# Altium integrated library NSC LDO.IntLib: 1228 symbols (part 17 of 28)
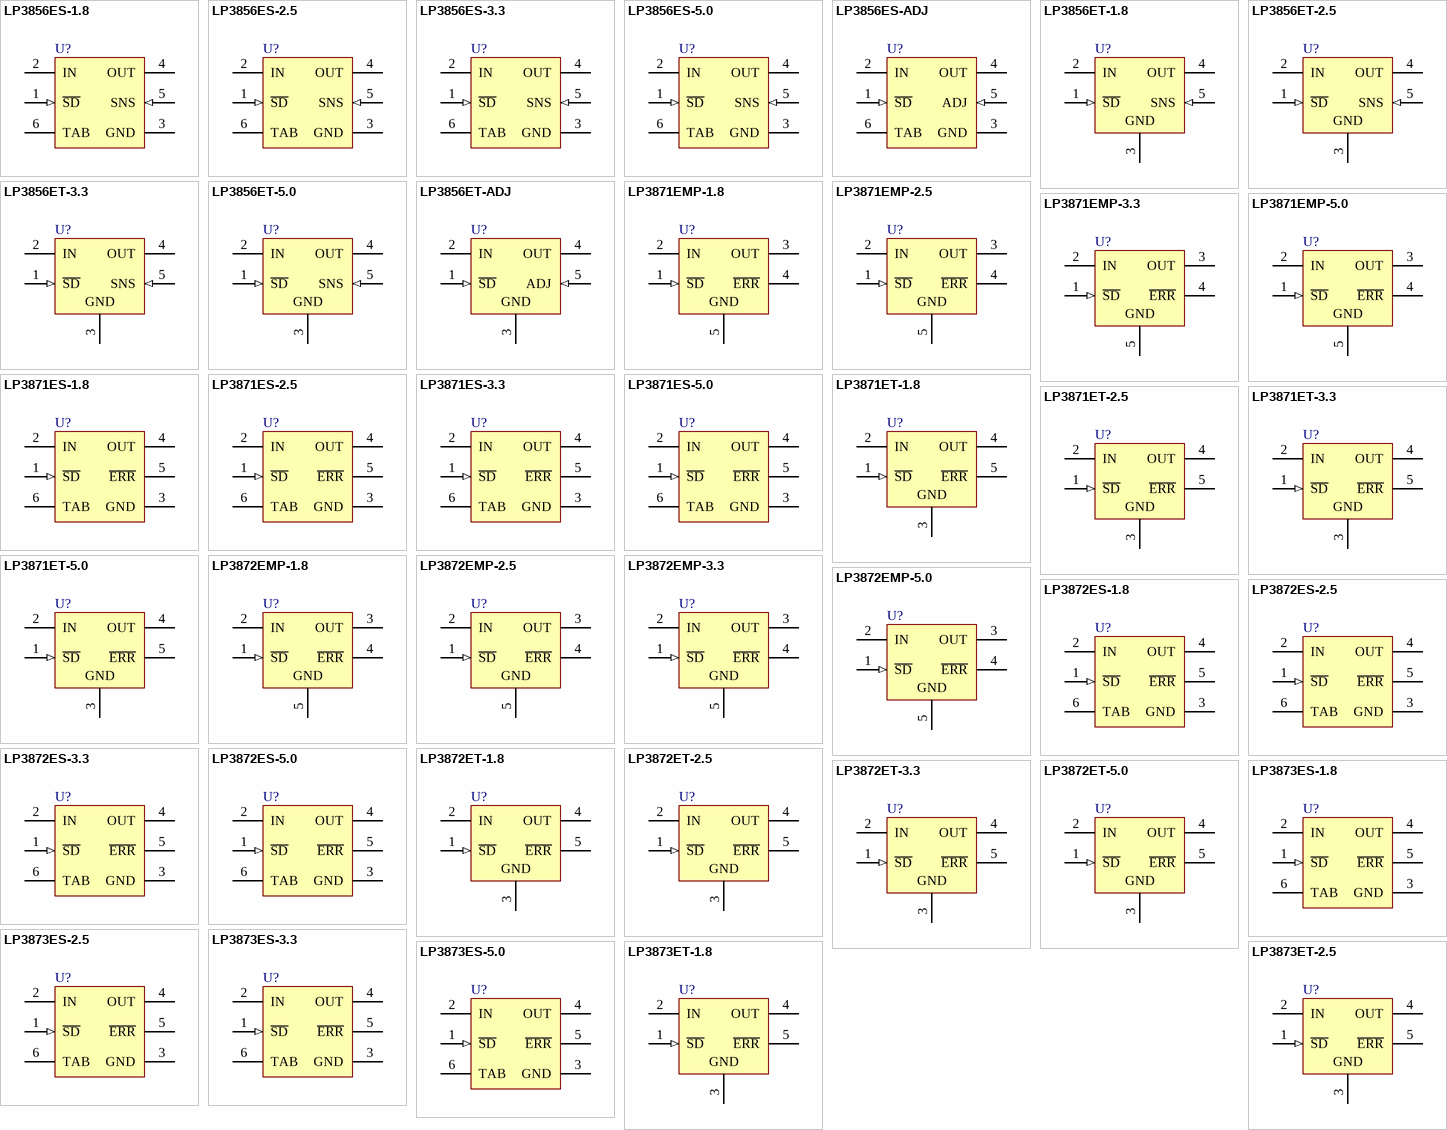
[diagram p46: symbols LP3856ES-1.8 to LP3873ET-2.5]

## LP3873ET-2.5
designator U?
3A Fast Ultra Low Dropout Linear Regulator; PartNumber: LP3873ET-2.5; Manufacturer: National Semiconductor; CompType: LDO IC; PackageTopMarking: NSUZXYTTE#*LP3873ET*-2.5; Published: 4-Dec-2008; DatasheetVersion: Sep-2006; PackageVersion: revA, Oct-1989; PackageReference: T05D; Publisher: Altium Limited; PackageDescription: TO-220, Molded, Stagger Bend, 5 Lead; RoHS: Y; PinCount: 5; DigiKeyPartNumber: LP3873ET-2.5-ND; ComponentLink1Description: LP3873 Datasheet; ComponentLink1URL: http://www.national.com/ds/LP/LP3873.pdf; ComponentLink2Description: LP3873 Web Page; ComponentLink2URL: http://www.national.com/pf/LP/LP3873.html; ComponentLink3Description: T05D Package Page; ComponentLink3URL: http://www.national.com/packaging/folders/t05d.html
footprint T05D (TO, Thru-Hole, Vertical, Heatsink Mounted; 5 Bent Staggered Leads; Pitch 1.7 mm)
pins: 1 ~{SD} (in), 2 IN (power), 3 GND (power), 4 OUT (power), 5 ~{ERR} (oc)

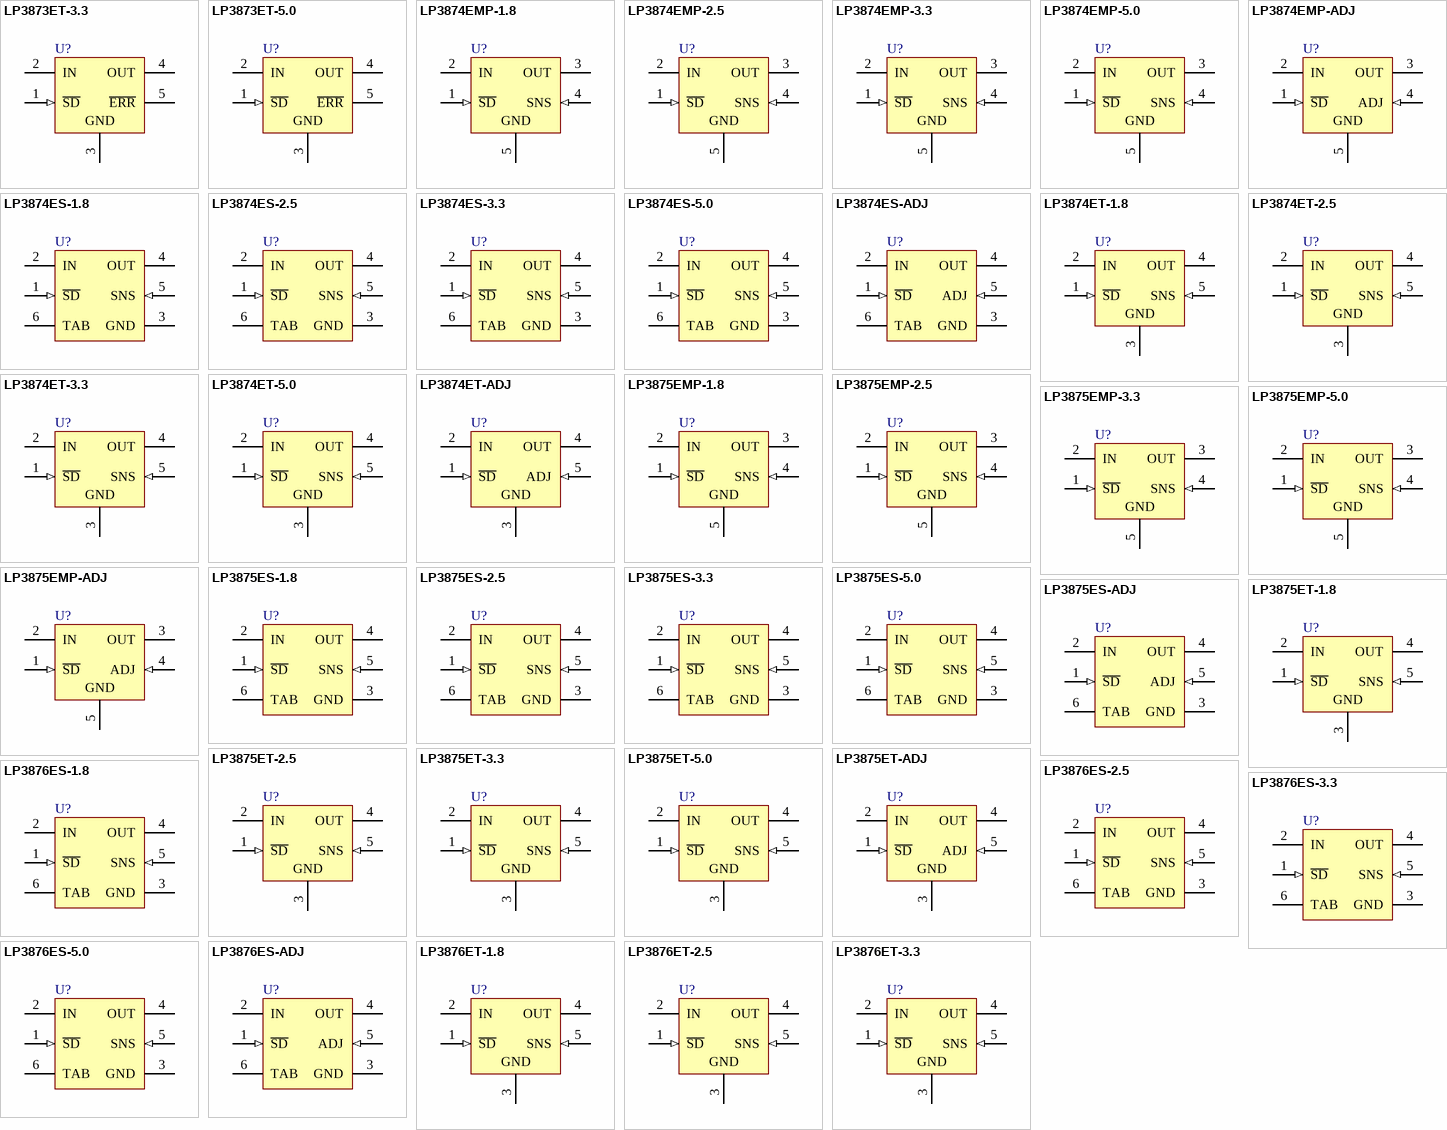
[diagram p18: symbols LP3873ET-3.3 to LP3876ET-3.3]

## LP3873ET-3.3
designator U?
3A Fast Ultra Low Dropout Linear Regulator; PartNumber: LP3873ET-3.3; Manufacturer: National Semiconductor; CompType: LDO IC; PackageTopMarking: NSUZXYTTE#*LP3873ET*-3.3; Published: 4-Dec-2008; DatasheetVersion: Sep-2006; PackageVersion: revA, Oct-1989; PackageReference: T05D; Publisher: Altium Limited; PackageDescription: TO-220, Molded, Stagger Bend, 5 Lead; RoHS: Y; PinCount: 5; DigiKeyPartNumber: LP3873ET-3.3-ND; ComponentLink1Description: LP3873 Datasheet; ComponentLink1URL: http://www.national.com/ds/LP/LP3873.pdf; ComponentLink2Description: LP3873 Web Page; ComponentLink2URL: http://www.national.com/pf/LP/LP3873.html; ComponentLink3Description: T05D Package Page; ComponentLink3URL: http://www.national.com/packaging/folders/t05d.html
footprint T05D (TO, Thru-Hole, Vertical, Heatsink Mounted; 5 Bent Staggered Leads; Pitch 1.7 mm)
pins: 1 ~{SD} (in), 2 IN (power), 3 GND (power), 4 OUT (power), 5 ~{ERR} (oc)

## LP3873ET-5.0
designator U?
3A Fast Ultra Low Dropout Linear Regulator; PartNumber: LP3873ET-5.0; Manufacturer: National Semiconductor; CompType: LDO IC; PackageTopMarking: NSUZXYTTE#*LP3873ET*-5.0; Published: 4-Dec-2008; DatasheetVersion: Sep-2006; PackageVersion: revA, Oct-1989; PackageReference: T05D; Publisher: Altium Limited; PackageDescription: TO-220, Molded, Stagger Bend, 5 Lead; RoHS: Y; PinCount: 5; DigiKeyPartNumber: LP3873ET-5.0-ND; ComponentLink1Description: LP3873 Datasheet; ComponentLink1URL: http://www.national.com/ds/LP/LP3873.pdf; ComponentLink2Description: LP3873 Web Page; ComponentLink2URL: http://www.national.com/pf/LP/LP3873.html; ComponentLink3Description: T05D Package Page; ComponentLink3URL: http://www.national.com/packaging/folders/t05d.html
footprint T05D (TO, Thru-Hole, Vertical, Heatsink Mounted; 5 Bent Staggered Leads; Pitch 1.7 mm)
pins: 1 ~{SD} (in), 2 IN (power), 3 GND (power), 4 OUT (power), 5 ~{ERR} (oc)

## LP3874EMP-1.8
designator U?
0.8A Fast Ultra Low Dropout Linear Regulators; PartNumber: LP3874EMP-1.8; Manufacturer: National Semiconductor; CompType: LDO IC; PackageTopMarking: XYTT*LHEB; PowerWise: N; Published: 4-Dec-2008; DatasheetVersion: Sep-2006; PackageVersion: revA, Jan-2000; PackageReference: MP05A; Publisher: Altium Limited; PackageDescription: Moldec SOT-223, 6.50 x 3.56 x 1.6mm Body, 5 Lead, 1.5mm Pitch; RoHS: Y; PinCount: 5; DigiKeyPartNumber: LP3874EMP-1.8CT-ND; Code_JEDEC: TO-261-AB; Code_IPC: SOT223-5; ComponentLink1Description: LP3874 Datasheet; ComponentLink1URL: http://www.national.com/ds/LP/LP3874.pdf; ComponentLink2Description: LP3874 Web Page; ComponentLink2URL: http://www.national.com/pf/LP/LP3874.html; ComponentLink3Description: MP05A Package Page; ComponentLink3URL: http://www.national.com/packaging/folders/mp05a.html
footprint MP05A_N (SOT223, 5-Leads, Body 6.5x3.5mm, Pitch 1.5mm, Lead Span 7mm, IPC Medium Density)
footprint MP05A_L (SOT223, 5-Leads, Body 6.5x3.5mm, Pitch 1.5mm, Lead Span 7mm, IPC High Density)
footprint MP05A_M (SOT223, 5-Leads, Body 6.5x3.5mm, Pitch 1.5mm, Lead Span 7mm, IPC Low Density)
pins: 1 ~{SD} (in), 2 IN (power), 3 OUT (power), 4 SNS (in), 5 GND (power)

## LP3874EMP-2.5
designator U?
0.8A Fast Ultra Low Dropout Linear Regulators; PartNumber: LP3874EMP-2.5; Manufacturer: National Semiconductor; CompType: LDO IC; PackageTopMarking: XYTT*LHFB; PowerWise: N; Published: 4-Dec-2008; DatasheetVersion: Sep-2006; PackageVersion: revA, Jan-2000; PackageReference: MP05A; Publisher: Altium Limited; PackageDescription: Moldec SOT-223, 6.50 x 3.56 x 1.6mm Body, 5 Lead, 1.5mm Pitch; RoHS: Y; PinCount: 5; DigiKeyPartNumber: LP3874EMP-2.5CT-ND; Code_JEDEC: TO-261-AB; Code_IPC: SOT223-5; ComponentLink1Description: LP3874 Datasheet; ComponentLink1URL: http://www.national.com/ds/LP/LP3874.pdf; ComponentLink2Description: LP3874 Web Page; ComponentLink2URL: http://www.national.com/pf/LP/LP3874.html; ComponentLink3Description: MP05A Package Page; ComponentLink3URL: http://www.national.com/packaging/folders/mp05a.html
footprint MP05A_N (SOT223, 5-Leads, Body 6.5x3.5mm, Pitch 1.5mm, Lead Span 7mm, IPC Medium Density)
footprint MP05A_L (SOT223, 5-Leads, Body 6.5x3.5mm, Pitch 1.5mm, Lead Span 7mm, IPC High Density)
footprint MP05A_M (SOT223, 5-Leads, Body 6.5x3.5mm, Pitch 1.5mm, Lead Span 7mm, IPC Low Density)
pins: 1 ~{SD} (in), 2 IN (power), 3 OUT (power), 4 SNS (in), 5 GND (power)

## LP3874EMP-3.3
designator U?
0.8A Fast Ultra Low Dropout Linear Regulators; PartNumber: LP3874EMP-3.3; Manufacturer: National Semiconductor; CompType: LDO IC; PackageTopMarking: XYTT*LHHB; PowerWise: N; Published: 4-Dec-2008; DatasheetVersion: Sep-2006; PackageVersion: revA, Jan-2000; PackageReference: MP05A; Publisher: Altium Limited; PackageDescription: Moldec SOT-223, 6.50 x 3.56 x 1.6mm Body, 5 Lead, 1.5mm Pitch; RoHS: Y; PinCount: 5; DigiKeyPartNumber: LP3874EMP-3.3CT-ND; Code_JEDEC: TO-261-AB; Code_IPC: SOT223-5; ComponentLink1Description: LP3874 Datasheet; ComponentLink1URL: http://www.national.com/ds/LP/LP3874.pdf; ComponentLink2Description: LP3874 Web Page; ComponentLink2URL: http://www.national.com/pf/LP/LP3874.html; ComponentLink3Description: MP05A Package Page; ComponentLink3URL: http://www.national.com/packaging/folders/mp05a.html
footprint MP05A_N (SOT223, 5-Leads, Body 6.5x3.5mm, Pitch 1.5mm, Lead Span 7mm, IPC Medium Density)
footprint MP05A_L (SOT223, 5-Leads, Body 6.5x3.5mm, Pitch 1.5mm, Lead Span 7mm, IPC High Density)
footprint MP05A_M (SOT223, 5-Leads, Body 6.5x3.5mm, Pitch 1.5mm, Lead Span 7mm, IPC Low Density)
pins: 1 ~{SD} (in), 2 IN (power), 3 OUT (power), 4 SNS (in), 5 GND (power)

## LP3874EMP-5.0
designator U?
0.8A Fast Ultra Low Dropout Linear Regulators; PartNumber: LP3874EMP-5.0; Manufacturer: National Semiconductor; CompType: LDO IC; PackageTopMarking: XYTT*LHJB; PowerWise: N; Published: 4-Dec-2008; DatasheetVersion: Sep-2006; PackageVersion: revA, Jan-2000; PackageReference: MP05A; Publisher: Altium Limited; PackageDescription: Moldec SOT-223, 6.50 x 3.56 x 1.6mm Body, 5 Lead, 1.5mm Pitch; RoHS: Y; PinCount: 5; DigiKeyPartNumber: LP3874EMP-5.0CT-ND; Code_JEDEC: TO-261-AB; Code_IPC: SOT223-5; ComponentLink1Description: LP3874 Datasheet; ComponentLink1URL: http://www.national.com/ds/LP/LP3874.pdf; ComponentLink2Description: LP3874 Web Page; ComponentLink2URL: http://www.national.com/pf/LP/LP3874.html; ComponentLink3Description: MP05A Package Page; ComponentLink3URL: http://www.national.com/packaging/folders/mp05a.html
footprint MP05A_N (SOT223, 5-Leads, Body 6.5x3.5mm, Pitch 1.5mm, Lead Span 7mm, IPC Medium Density)
footprint MP05A_L (SOT223, 5-Leads, Body 6.5x3.5mm, Pitch 1.5mm, Lead Span 7mm, IPC High Density)
footprint MP05A_M (SOT223, 5-Leads, Body 6.5x3.5mm, Pitch 1.5mm, Lead Span 7mm, IPC Low Density)
pins: 1 ~{SD} (in), 2 IN (power), 3 OUT (power), 4 SNS (in), 5 GND (power)

## LP3874EMP-ADJ
designator U?
0.8A Fast Ultra Low Dropout Linear Regulators; PartNumber: LP3874EMP-ADJ; Manufacturer: National Semiconductor; CompType: LDO IC; PackageTopMarking: XYTT*LHKB; PowerWise: N; Published: 4-Dec-2008; DatasheetVersion: Oct-2006; PackageVersion: revA, Jan-2000; PackageReference: MP05A; Publisher: Altium Limited; PackageDescription: Moldec SOT-223, 6.50 x 3.56 x 1.6mm Body, 5 Lead, 1.5mm Pitch; RoHS: Y; PinCount: 5; DigiKeyPartNumber: LP3874EMP-ADJCT-ND; Code_JEDEC: TO-261-AB; Code_IPC: SOT223-5; ComponentLink1Description: LP3874-ADJ Datasheet; ComponentLink1URL: http://www.national.com/ds/LP/LP3874-ADJ.pdf; ComponentLink2Description: LP3874-ADJ Web Page; ComponentLink2URL: http://www.national.com/pf/LP/LP3874-ADJ.html; ComponentLink3Description: MP05A Package Page; ComponentLink3URL: http://www.national.com/packaging/folders/mp05a.html
footprint MP05A_N (SOT223, 5-Leads, Body 6.5x3.5mm, Pitch 1.5mm, Lead Span 7mm, IPC Medium Density)
footprint MP05A_L (SOT223, 5-Leads, Body 6.5x3.5mm, Pitch 1.5mm, Lead Span 7mm, IPC High Density)
footprint MP05A_M (SOT223, 5-Leads, Body 6.5x3.5mm, Pitch 1.5mm, Lead Span 7mm, IPC Low Density)
pins: 1 ~{SD} (in), 2 IN (power), 3 OUT (power), 4 ADJ (in), 5 GND (power)

## LP3874ES-1.8
designator U?
0.8A Fast Ultra Low Dropout Linear Regulators; PartNumber: LP3874ES-1.8; Manufacturer: National Semiconductor; CompType: LDO IC; PackageTopMarking: NSUZXYTTE#*LP3874ES*-1.8; Published: 4-Dec-2008; DatasheetVersion: Sep-2006; PackageVersion: revD, Apr-2005; PackageReference: TS5B; Publisher: Altium Limited; PackageDescription: TO-263, Molded, .400 x .390 x .180in, 5 Lead, .067in Pitch, Surface Mount; RoHS: O; PinCount: 5; DigiKeyPartNumber: LP3874ES-1.8-ND; Code_JEDEC: MO-169-AB; ComponentLink1Description: LP3874 Datasheet; ComponentLink1URL: http://www.national.com/ds/LP/LP3874.pdf; ComponentLink2Description: LP3874 Web Page; ComponentLink2URL: http://www.national.com/pf/LP/LP3874.html; ComponentLink3Description: TS5B Package Page; ComponentLink3URL: http://www.national.com/packaging/folders/ts5b.html
footprint TS5B_N (D2-PAK, 6-Leads, Body 8.6x10.2mm, Pitch 1.7mm, Lead Span 14.1mm, IPC Medium Density)
footprint TS5B_L (D2-PAK, 6-Leads, Body 8.6x10.2mm, Pitch 1.7mm, Lead Span 14.1mm, IPC High Density)
footprint TS5B_M (D2-PAK, 6-Leads, Body 8.6x10.2mm, Pitch 1.7mm, Lead Span 14.1mm, IPC Low Density)
pins: 1 ~{SD} (in), 2 IN (power), 3 GND (power), 4 OUT (power), 5 SNS (in), 6 TAB (power)

## LP3874ES-2.5
designator U?
0.8A Fast Ultra Low Dropout Linear Regulators; PartNumber: LP3874ES-2.5; Manufacturer: National Semiconductor; CompType: LDO IC; PackageTopMarking: NSUZXYTTE#*LP3874ES*-2.5; PowerWise: N; Published: 4-Dec-2008; DatasheetVersion: Sep-2006; PackageVersion: revD, Apr-2005; PackageReference: TS5B; Publisher: Altium Limited; PackageDescription: TO-263, Molded, .400 x .390 x .180in, 5 Lead, .067in Pitch, Surface Mount; RoHS: O; PinCount: 5; DigiKeyPartNumber: LP3874ES-2.5-ND; Code_JEDEC: MO-169-AB; ComponentLink1Description: LP3874 Datasheet; ComponentLink1URL: http://www.national.com/ds/LP/LP3874.pdf; ComponentLink2Description: LP3874 Web Page; ComponentLink2URL: http://www.national.com/pf/LP/LP3874.html; ComponentLink3Description: TS5B Package Page; ComponentLink3URL: http://www.national.com/packaging/folders/ts5b.html
footprint TS5B_N (D2-PAK, 6-Leads, Body 8.6x10.2mm, Pitch 1.7mm, Lead Span 14.1mm, IPC Medium Density)
footprint TS5B_L (D2-PAK, 6-Leads, Body 8.6x10.2mm, Pitch 1.7mm, Lead Span 14.1mm, IPC High Density)
footprint TS5B_M (D2-PAK, 6-Leads, Body 8.6x10.2mm, Pitch 1.7mm, Lead Span 14.1mm, IPC Low Density)
pins: 1 ~{SD} (in), 2 IN (power), 3 GND (power), 4 OUT (power), 5 SNS (in), 6 TAB (power)

## LP3874ES-3.3
designator U?
0.8A Fast Ultra Low Dropout Linear Regulators; PartNumber: LP3874ES-3.3; Manufacturer: National Semiconductor; CompType: LDO IC; PackageTopMarking: NSUZXYTTE#*LP3874ES*-3.3; PowerWise: N; Published: 4-Dec-2008; DatasheetVersion: Sep-2006; PackageVersion: revD, Apr-2005; PackageReference: TS5B; Publisher: Altium Limited; PackageDescription: TO-263, Molded, .400 x .390 x .180in, 5 Lead, .067in Pitch, Surface Mount; RoHS: Y; PinCount: 5; DigiKeyPartNumber: LP3874ES-3.3-ND; Code_JEDEC: MO-169-AB; ComponentLink1Description: LP3874 Datasheet; ComponentLink1URL: http://www.national.com/ds/LP/LP3874.pdf; ComponentLink2Description: LP3874 Web Page; ComponentLink2URL: http://www.national.com/pf/LP/LP3874.html; ComponentLink3Description: TS5B Package Page; ComponentLink3URL: http://www.national.com/packaging/folders/ts5b.html
footprint TS5B_N (D2-PAK, 6-Leads, Body 8.6x10.2mm, Pitch 1.7mm, Lead Span 14.1mm, IPC Medium Density)
footprint TS5B_L (D2-PAK, 6-Leads, Body 8.6x10.2mm, Pitch 1.7mm, Lead Span 14.1mm, IPC High Density)
footprint TS5B_M (D2-PAK, 6-Leads, Body 8.6x10.2mm, Pitch 1.7mm, Lead Span 14.1mm, IPC Low Density)
pins: 1 ~{SD} (in), 2 IN (power), 3 GND (power), 4 OUT (power), 5 SNS (in), 6 TAB (power)

## LP3874ES-5.0
designator U?
0.8A Fast Ultra Low Dropout Linear Regulators; PartNumber: LP3874ES-5.0; Manufacturer: National Semiconductor; CompType: LDO IC; PackageTopMarking: NSUZXYTTE#*LP3874ES*-5.0; Published: 4-Dec-2008; DatasheetVersion: Sep-2006; PackageVersion: revD, Apr-2005; PackageReference: TS5B; Publisher: Altium Limited; PackageDescription: TO-263, Molded, .400 x .390 x .180in, 5 Lead, .067in Pitch, Surface Mount; RoHS: Y; PinCount: 5; DigiKeyPartNumber: LP3874ES-5.0-ND; Code_JEDEC: MO-169-AB; ComponentLink1Description: LP3874 Datasheet; ComponentLink1URL: http://www.national.com/ds/LP/LP3874.pdf; ComponentLink2Description: LP3874 Web Page; ComponentLink2URL: http://www.national.com/pf/LP/LP3874.html; ComponentLink3Description: TS5B Package Page; ComponentLink3URL: http://www.national.com/packaging/folders/ts5b.html
footprint TS5B_N (D2-PAK, 6-Leads, Body 8.6x10.2mm, Pitch 1.7mm, Lead Span 14.1mm, IPC Medium Density)
footprint TS5B_L (D2-PAK, 6-Leads, Body 8.6x10.2mm, Pitch 1.7mm, Lead Span 14.1mm, IPC High Density)
footprint TS5B_M (D2-PAK, 6-Leads, Body 8.6x10.2mm, Pitch 1.7mm, Lead Span 14.1mm, IPC Low Density)
pins: 1 ~{SD} (in), 2 IN (power), 3 GND (power), 4 OUT (power), 5 SNS (in), 6 TAB (power)

## LP3874ES-ADJ
designator U?
0.8A Fast Ultra Low Dropout Linear Regulators; PartNumber: LP3874ES-ADJ; Manufacturer: National Semiconductor; CompType: LDO IC; PackageTopMarking: NSUZXYTTE#*LP3874ES*ADJ; PowerWise: N; Published: 4-Dec-2008; DatasheetVersion: Oct-2006; PackageVersion: revD, Apr-2005; PackageReference: TS5B; Publisher: Altium Limited; PackageDescription: TO-263, Molded, .400 x .390 x .180in, 5 Lead, .067in Pitch, Surface Mount; RoHS: Y; PinCount: 5; DigiKeyPartNumber: LP3874ES-ADJ-ND; Code_JEDEC: MO-169-AB; ComponentLink1Description: LP3874-ADJ Datasheet; ComponentLink1URL: http://www.national.com/ds/LP/LP3874-ADJ.pdf; ComponentLink2Description: LP3874-ADJ Web Page; ComponentLink2URL: http://www.national.com/pf/LP/LP3874-ADJ.html; ComponentLink3Description: TS5B Package Page; ComponentLink3URL: http://www.national.com/packaging/folders/ts5b.html
footprint TS5B_N (D2-PAK, 6-Leads, Body 8.6x10.2mm, Pitch 1.7mm, Lead Span 14.1mm, IPC Medium Density)
footprint TS5B_L (D2-PAK, 6-Leads, Body 8.6x10.2mm, Pitch 1.7mm, Lead Span 14.1mm, IPC High Density)
footprint TS5B_M (D2-PAK, 6-Leads, Body 8.6x10.2mm, Pitch 1.7mm, Lead Span 14.1mm, IPC Low Density)
pins: 1 ~{SD} (in), 2 IN (power), 3 GND (power), 4 OUT (power), 5 ADJ (in), 6 TAB (power)

## LP3874ET-1.8
designator U?
0.8A Fast Ultra Low Dropout Linear Regulators; PartNumber: LP3874ET-1.8; Manufacturer: National Semiconductor; CompType: LDO IC; PackageTopMarking: NSUZXYTTE#*LP3874ET*-1.8; Published: 4-Dec-2008; DatasheetVersion: Sep-2006; PackageVersion: revA, Oct-1989; PackageReference: T05D; Publisher: Altium Limited; PackageDescription: TO-220, Molded, Stagger Bend, 5 Lead; RoHS: Y; PinCount: 5; DigiKeyPartNumber: LP3874ET-1.8-ND; ComponentLink1Description: LP3874 Datasheet; ComponentLink1URL: http://www.national.com/ds/LP/LP3874.pdf; ComponentLink2Description: LP3874 Web Page; ComponentLink2URL: http://www.national.com/pf/LP/LP3874.html; ComponentLink3Description: T05D Package Page; ComponentLink3URL: http://www.national.com/packaging/folders/t05d.html
footprint T05D (TO, Thru-Hole, Vertical, Heatsink Mounted; 5 Bent Staggered Leads; Pitch 1.7 mm)
pins: 1 ~{SD} (in), 2 IN (power), 3 GND (power), 4 OUT (power), 5 SNS (in)

## LP3874ET-2.5
designator U?
0.8A Fast Ultra Low Dropout Linear Regulators; PartNumber: LP3874ET-2.5; Manufacturer: National Semiconductor; CompType: LDO IC; PackageTopMarking: NSUZXYTTE#*LP3874ET*-2.5; Published: 4-Dec-2008; DatasheetVersion: Sep-2006; PackageVersion: revA, Oct-1989; PackageReference: T05D; Publisher: Altium Limited; PackageDescription: TO-220, Molded, Stagger Bend, 5 Lead; RoHS: Y; PinCount: 5; DigiKeyPartNumber: LP3874ET-2.5-ND; ComponentLink1Description: LP3874 Datasheet; ComponentLink1URL: http://www.national.com/ds/LP/LP3874.pdf; ComponentLink2Description: LP3874 Web Page; ComponentLink2URL: http://www.national.com/pf/LP/LP3874.html; ComponentLink3Description: T05D Package Page; ComponentLink3URL: http://www.national.com/packaging/folders/t05d.html
footprint T05D (TO, Thru-Hole, Vertical, Heatsink Mounted; 5 Bent Staggered Leads; Pitch 1.7 mm)
pins: 1 ~{SD} (in), 2 IN (power), 3 GND (power), 4 OUT (power), 5 SNS (in)

## LP3874ET-3.3
designator U?
0.8A Fast Ultra Low Dropout Linear Regulators; PartNumber: LP3874ET-3.3; Manufacturer: National Semiconductor; CompType: LDO IC; PackageTopMarking: NSUZXYTTE#*LP3874ET*-3.3; Published: 4-Dec-2008; DatasheetVersion: Sep-2006; PackageVersion: revA, Oct-1989; PackageReference: T05D; Publisher: Altium Limited; PackageDescription: TO-220, Molded, Stagger Bend, 5 Lead; RoHS: Y; PinCount: 5; DigiKeyPartNumber: LP3874ET-3.3-ND; ComponentLink1Description: LP3874 Datasheet; ComponentLink1URL: http://www.national.com/ds/LP/LP3874.pdf; ComponentLink2Description: LP3874 Web Page; ComponentLink2URL: http://www.national.com/pf/LP/LP3874.html; ComponentLink3Description: T05D Package Page; ComponentLink3URL: http://www.national.com/packaging/folders/t05d.html
footprint T05D (TO, Thru-Hole, Vertical, Heatsink Mounted; 5 Bent Staggered Leads; Pitch 1.7 mm)
pins: 1 ~{SD} (in), 2 IN (power), 3 GND (power), 4 OUT (power), 5 SNS (in)

## LP3874ET-5.0
designator U?
0.8A Fast Ultra Low Dropout Linear Regulators; PartNumber: LP3874ET-5.0; Manufacturer: National Semiconductor; CompType: LDO IC; PackageTopMarking: NSUZXYTTE#*LP3874ET*-5.0; Published: 4-Dec-2008; DatasheetVersion: Sep-2006; PackageVersion: revA, Oct-1989; PackageReference: T05D; Publisher: Altium Limited; PackageDescription: TO-220, Molded, Stagger Bend, 5 Lead; RoHS: Y; PinCount: 5; DigiKeyPartNumber: LP3874ET-5.0-ND; ComponentLink1Description: LP3874 Datasheet; ComponentLink1URL: http://www.national.com/ds/LP/LP3874.pdf; ComponentLink2Description: LP3874 Web Page; ComponentLink2URL: http://www.national.com/pf/LP/LP3874.html; ComponentLink3Description: T05D Package Page; ComponentLink3URL: http://www.national.com/packaging/folders/t05d.html
footprint T05D (TO, Thru-Hole, Vertical, Heatsink Mounted; 5 Bent Staggered Leads; Pitch 1.7 mm)
pins: 1 ~{SD} (in), 2 IN (power), 3 GND (power), 4 OUT (power), 5 SNS (in)

## LP3874ET-ADJ
designator U?
0.8A Fast Ultra Low Dropout Linear Regulators; PartNumber: LP3874ET-ADJ; Manufacturer: National Semiconductor; CompType: LDO IC; PackageTopMarking: NSUZXYTTE#*LP3874ET*ADJ; Published: 4-Dec-2008; DatasheetVersion: Oct-2006; PackageVersion: revA, Oct-1989; PackageReference: T05D; Publisher: Altium Limited; PackageDescription: TO-220, Molded, Stagger Bend, 5 Lead; RoHS: Y; PinCount: 5; DigiKeyPartNumber: LP3874ET-ADJ-ND; ComponentLink1Description: LP3874-ADJ Datasheet; ComponentLink1URL: http://www.national.com/ds/LP/LP3874-ADJ.pdf; ComponentLink2Description: LP3874-ADJ Web Page; ComponentLink2URL: http://www.national.com/pf/LP/LP3874-ADJ.html; ComponentLink3Description: T05D Package Page; ComponentLink3URL: http://www.national.com/packaging/folders/t05d.html
footprint T05D (TO, Thru-Hole, Vertical, Heatsink Mounted; 5 Bent Staggered Leads; Pitch 1.7 mm)
pins: 1 ~{SD} (in), 2 IN (power), 3 GND (power), 4 OUT (power), 5 ADJ (in)

## LP3875EMP-1.8
designator U?
1.5A Fast Ultra Low Dropout Linear Regulator; PartNumber: LP3875EMP-1.8; Manufacturer: National Semiconductor; CompType: LDO IC; PackageTopMarking: XYTT*LHLB; PowerWise: N; Published: 4-Dec-2008; DatasheetVersion: Sep-2006; PackageVersion: revA, Jan-2000; PackageReference: MP05A; Publisher: Altium Limited; PackageDescription: Moldec SOT-223, 6.50 x 3.56 x 1.6mm Body, 5 Lead, 1.5mm Pitch; RoHS: Y; PinCount: 5; DigiKeyPartNumber: LP3875EMP-1.8CT-ND; Code_JEDEC: TO-261-AB; Code_IPC: SOT223-5; ComponentLink1Description: LP3875 Datasheet; ComponentLink1URL: http://www.national.com/ds/LP/LP3875.pdf; ComponentLink2Description: LP3875 Web Page; ComponentLink2URL: http://www.national.com/pf/LP/LP3875.html; ComponentLink3Description: MP05A Package Page; ComponentLink3URL: http://www.national.com/packaging/folders/mp05a.html
footprint MP05A_N (SOT223, 5-Leads, Body 6.5x3.5mm, Pitch 1.5mm, Lead Span 7mm, IPC Medium Density)
footprint MP05A_L (SOT223, 5-Leads, Body 6.5x3.5mm, Pitch 1.5mm, Lead Span 7mm, IPC High Density)
footprint MP05A_M (SOT223, 5-Leads, Body 6.5x3.5mm, Pitch 1.5mm, Lead Span 7mm, IPC Low Density)
pins: 1 ~{SD} (in), 2 IN (power), 3 OUT (power), 4 SNS (in), 5 GND (power)

## LP3875EMP-2.5
designator U?
1.5A Fast Ultra Low Dropout Linear Regulator; PartNumber: LP3875EMP-2.5; Manufacturer: National Semiconductor; CompType: LDO IC; PackageTopMarking: XYTT*LHNB; PowerWise: N; Published: 4-Dec-2008; DatasheetVersion: Sep-2006; PackageVersion: revA, Jan-2000; PackageReference: MP05A; Publisher: Altium Limited; PackageDescription: Moldec SOT-223, 6.50 x 3.56 x 1.6mm Body, 5 Lead, 1.5mm Pitch; RoHS: Y; PinCount: 5; DigiKeyPartNumber: LP3875EMP-2.5CT-ND; Code_JEDEC: TO-261-AB; Code_IPC: SOT223-5; ComponentLink1Description: LP3875 Datasheet; ComponentLink1URL: http://www.national.com/ds/LP/LP3875.pdf; ComponentLink2Description: LP3875 Web Page; ComponentLink2URL: http://www.national.com/pf/LP/LP3875.html; ComponentLink3Description: MP05A Package Page; ComponentLink3URL: http://www.national.com/packaging/folders/mp05a.html
footprint MP05A_N (SOT223, 5-Leads, Body 6.5x3.5mm, Pitch 1.5mm, Lead Span 7mm, IPC Medium Density)
footprint MP05A_L (SOT223, 5-Leads, Body 6.5x3.5mm, Pitch 1.5mm, Lead Span 7mm, IPC High Density)
footprint MP05A_M (SOT223, 5-Leads, Body 6.5x3.5mm, Pitch 1.5mm, Lead Span 7mm, IPC Low Density)
pins: 1 ~{SD} (in), 2 IN (power), 3 OUT (power), 4 SNS (in), 5 GND (power)

## LP3875EMP-3.3
designator U?
1.5A Fast Ultra Low Dropout Linear Regulator; PartNumber: LP3875EMP-3.3; Manufacturer: National Semiconductor; CompType: LDO IC; PackageTopMarking: XYTT*LHPB; PowerWise: N; Published: 4-Dec-2008; DatasheetVersion: Sep-2006; PackageVersion: revA, Jan-2000; PackageReference: MP05A; Publisher: Altium Limited; PackageDescription: Moldec SOT-223, 6.50 x 3.56 x 1.6mm Body, 5 Lead, 1.5mm Pitch; RoHS: Y; PinCount: 5; DigiKeyPartNumber: LP3875EMP-3.3CT-ND; Code_JEDEC: TO-261-AB; Code_IPC: SOT223-5; ComponentLink1Description: LP3875 Datasheet; ComponentLink1URL: http://www.national.com/ds/LP/LP3875.pdf; ComponentLink2Description: LP3875 Web Page; ComponentLink2URL: http://www.national.com/pf/LP/LP3875.html; ComponentLink3Description: MP05A Package Page; ComponentLink3URL: http://www.national.com/packaging/folders/mp05a.html
footprint MP05A_N (SOT223, 5-Leads, Body 6.5x3.5mm, Pitch 1.5mm, Lead Span 7mm, IPC Medium Density)
footprint MP05A_L (SOT223, 5-Leads, Body 6.5x3.5mm, Pitch 1.5mm, Lead Span 7mm, IPC High Density)
footprint MP05A_M (SOT223, 5-Leads, Body 6.5x3.5mm, Pitch 1.5mm, Lead Span 7mm, IPC Low Density)
pins: 1 ~{SD} (in), 2 IN (power), 3 OUT (power), 4 SNS (in), 5 GND (power)

## LP3875EMP-5.0
designator U?
1.5A Fast Ultra Low Dropout Linear Regulator; PartNumber: LP3875EMP-5.0; Manufacturer: National Semiconductor; CompType: LDO IC; PackageTopMarking: XYTT*LHRB; PowerWise: N; Published: 4-Dec-2008; DatasheetVersion: Sep-2006; PackageVersion: revA, Jan-2000; PackageReference: MP05A; Publisher: Altium Limited; PackageDescription: Moldec SOT-223, 6.50 x 3.56 x 1.6mm Body, 5 Lead, 1.5mm Pitch; RoHS: Y; PinCount: 5; DigiKeyPartNumber: LP3875EMP-5.0CT-ND; Code_JEDEC: TO-261-AB; Code_IPC: SOT223-5; ComponentLink1Description: LP3875 Datasheet; ComponentLink1URL: http://www.national.com/ds/LP/LP3875.pdf; ComponentLink2Description: LP3875 Web Page; ComponentLink2URL: http://www.national.com/pf/LP/LP3875.html; ComponentLink3Description: MP05A Package Page; ComponentLink3URL: http://www.national.com/packaging/folders/mp05a.html
footprint MP05A_N (SOT223, 5-Leads, Body 6.5x3.5mm, Pitch 1.5mm, Lead Span 7mm, IPC Medium Density)
footprint MP05A_L (SOT223, 5-Leads, Body 6.5x3.5mm, Pitch 1.5mm, Lead Span 7mm, IPC High Density)
footprint MP05A_M (SOT223, 5-Leads, Body 6.5x3.5mm, Pitch 1.5mm, Lead Span 7mm, IPC Low Density)
pins: 1 ~{SD} (in), 2 IN (power), 3 OUT (power), 4 SNS (in), 5 GND (power)

## LP3875EMP-ADJ
designator U?
1.5A Fast Ultra Low Dropout Linear Regulator; PartNumber: LP3875EMP-ADJ; Manufacturer: National Semiconductor; CompType: LDO IC; PackageTopMarking: XYTT*LHSB; PowerWise: N; Published: 4-Dec-2008; DatasheetVersion: Sep-2006; PackageVersion: revA, Jan-2000; PackageReference: MP05A; Publisher: Altium Limited; PackageDescription: Moldec SOT-223, 6.50 x 3.56 x 1.6mm Body, 5 Lead, 1.5mm Pitch; RoHS: Y; PinCount: 5; DigiKeyPartNumber: LP3875EMP-ADJCT-ND; Code_JEDEC: TO-261-AB; Code_IPC: SOT223-5; ComponentLink1Description: LP3875-ADJ Datasheet; ComponentLink1URL: http://www.national.com/ds/LP/LP3875-ADJ.pdf; ComponentLink2Description: LP3875-ADJ Web Page; ComponentLink2URL: http://www.national.com/pf/LP/LP3875-ADJ.html; ComponentLink3Description: MP05A Package Page; ComponentLink3URL: http://www.national.com/packaging/folders/mp05a.html
footprint MP05A_N (SOT223, 5-Leads, Body 6.5x3.5mm, Pitch 1.5mm, Lead Span 7mm, IPC Medium Density)
footprint MP05A_L (SOT223, 5-Leads, Body 6.5x3.5mm, Pitch 1.5mm, Lead Span 7mm, IPC High Density)
footprint MP05A_M (SOT223, 5-Leads, Body 6.5x3.5mm, Pitch 1.5mm, Lead Span 7mm, IPC Low Density)
pins: 1 ~{SD} (in), 2 IN (power), 3 OUT (power), 4 ADJ (in), 5 GND (power)

## LP3875ES-1.8
designator U?
1.5A Fast Ultra Low Dropout Linear Regulator; PartNumber: LP3875ES-1.8; Manufacturer: National Semiconductor; CompType: LDO IC; PackageTopMarking: NSUZXYTTE#*LP3875ES*-1.8; PowerWise: N; Published: 4-Dec-2008; DatasheetVersion: Sep-2006; PackageVersion: revD, Apr-2005; PackageReference: TS5B; Publisher: Altium Limited; PackageDescription: TO-263, Molded, .400 x .390 x .180in, 5 Lead, .067in Pitch, Surface Mount; RoHS: Y; PinCount: 5; DigiKeyPartNumber: LP3875ES-1.8-ND; Code_JEDEC: MO-169-AB; ComponentLink1Description: LP3875 Datasheet; ComponentLink1URL: http://www.national.com/ds/LP/LP3875.pdf; ComponentLink2Description: LP3875 Web Page; ComponentLink2URL: http://www.national.com/pf/LP/LP3875.html; ComponentLink3Description: TS5B Package Page; ComponentLink3URL: http://www.national.com/packaging/folders/ts5b.html
footprint TS5B_N (D2-PAK, 6-Leads, Body 8.6x10.2mm, Pitch 1.7mm, Lead Span 14.1mm, IPC Medium Density)
footprint TS5B_L (D2-PAK, 6-Leads, Body 8.6x10.2mm, Pitch 1.7mm, Lead Span 14.1mm, IPC High Density)
footprint TS5B_M (D2-PAK, 6-Leads, Body 8.6x10.2mm, Pitch 1.7mm, Lead Span 14.1mm, IPC Low Density)
pins: 1 ~{SD} (in), 2 IN (power), 3 GND (power), 4 OUT (power), 5 SNS (in), 6 TAB (power)

## LP3875ES-2.5
designator U?
1.5A Fast Ultra Low Dropout Linear Regulator; PartNumber: LP3875ES-2.5; Manufacturer: National Semiconductor; CompType: LDO IC; PackageTopMarking: NSUZXYTTE#*LP3875ES*-2.5; PowerWise: N; Published: 4-Dec-2008; DatasheetVersion: Sep-2006; PackageVersion: revD, Apr-2005; PackageReference: TS5B; Publisher: Altium Limited; PackageDescription: TO-263, Molded, .400 x .390 x .180in, 5 Lead, .067in Pitch, Surface Mount; RoHS: O; PinCount: 5; DigiKeyPartNumber: LP3875ES-2.5-ND; Code_JEDEC: MO-169-AB; ComponentLink1Description: LP3875 Datasheet; ComponentLink1URL: http://www.national.com/ds/LP/LP3875.pdf; ComponentLink2Description: LP3875 Web Page; ComponentLink2URL: http://www.national.com/pf/LP/LP3875.html; ComponentLink3Description: TS5B Package Page; ComponentLink3URL: http://www.national.com/packaging/folders/ts5b.html
footprint TS5B_N (D2-PAK, 6-Leads, Body 8.6x10.2mm, Pitch 1.7mm, Lead Span 14.1mm, IPC Medium Density)
footprint TS5B_L (D2-PAK, 6-Leads, Body 8.6x10.2mm, Pitch 1.7mm, Lead Span 14.1mm, IPC High Density)
footprint TS5B_M (D2-PAK, 6-Leads, Body 8.6x10.2mm, Pitch 1.7mm, Lead Span 14.1mm, IPC Low Density)
pins: 1 ~{SD} (in), 2 IN (power), 3 GND (power), 4 OUT (power), 5 SNS (in), 6 TAB (power)

## LP3875ES-3.3
designator U?
1.5A Fast Ultra Low Dropout Linear Regulator; PartNumber: LP3875ES-3.3; Manufacturer: National Semiconductor; CompType: LDO IC; PackageTopMarking: NSUZXYTTE#*LP3875ES*-3.3; PowerWise: N; Published: 4-Dec-2008; DatasheetVersion: Sep-2006; PackageVersion: revD, Apr-2005; PackageReference: TS5B; Publisher: Altium Limited; PackageDescription: TO-263, Molded, .400 x .390 x .180in, 5 Lead, .067in Pitch, Surface Mount; RoHS: Y; PinCount: 5; DigiKeyPartNumber: LP3875ES-3.3-ND; Code_JEDEC: MO-169-AB; ComponentLink1Description: LP3875 Datasheet; ComponentLink1URL: http://www.national.com/ds/LP/LP3875.pdf; ComponentLink2Description: LP3875 Web Page; ComponentLink2URL: http://www.national.com/pf/LP/LP3875.html; ComponentLink3Description: TS5B Package Page; ComponentLink3URL: http://www.national.com/packaging/folders/ts5b.html
footprint TS5B_N (D2-PAK, 6-Leads, Body 8.6x10.2mm, Pitch 1.7mm, Lead Span 14.1mm, IPC Medium Density)
footprint TS5B_L (D2-PAK, 6-Leads, Body 8.6x10.2mm, Pitch 1.7mm, Lead Span 14.1mm, IPC High Density)
footprint TS5B_M (D2-PAK, 6-Leads, Body 8.6x10.2mm, Pitch 1.7mm, Lead Span 14.1mm, IPC Low Density)
pins: 1 ~{SD} (in), 2 IN (power), 3 GND (power), 4 OUT (power), 5 SNS (in), 6 TAB (power)

## LP3875ES-5.0
designator U?
1.5A Fast Ultra Low Dropout Linear Regulator; PartNumber: LP3875ES-5.0; Manufacturer: National Semiconductor; CompType: LDO IC; PackageTopMarking: NSUZXYTTE#*LP3875ES*-5.0; Published: 4-Dec-2008; DatasheetVersion: Sep-2006; PackageVersion: revD, Apr-2005; PackageReference: TS5B; Publisher: Altium Limited; PackageDescription: TO-263, Molded, .400 x .390 x .180in, 5 Lead, .067in Pitch, Surface Mount; RoHS: Y; PinCount: 5; DigiKeyPartNumber: LP3875ES-5.0-ND; Code_JEDEC: MO-169-AB; ComponentLink1Description: LP3875 Datasheet; ComponentLink1URL: http://www.national.com/ds/LP/LP3875.pdf; ComponentLink2Description: LP3875 Web Page; ComponentLink2URL: http://www.national.com/pf/LP/LP3875.html; ComponentLink3Description: TS5B Package Page; ComponentLink3URL: http://www.national.com/packaging/folders/ts5b.html
footprint TS5B_N (D2-PAK, 6-Leads, Body 8.6x10.2mm, Pitch 1.7mm, Lead Span 14.1mm, IPC Medium Density)
footprint TS5B_L (D2-PAK, 6-Leads, Body 8.6x10.2mm, Pitch 1.7mm, Lead Span 14.1mm, IPC High Density)
footprint TS5B_M (D2-PAK, 6-Leads, Body 8.6x10.2mm, Pitch 1.7mm, Lead Span 14.1mm, IPC Low Density)
pins: 1 ~{SD} (in), 2 IN (power), 3 GND (power), 4 OUT (power), 5 SNS (in), 6 TAB (power)

## LP3875ES-ADJ
designator U?
1.5A Fast Ultra Low Dropout Linear Regulator; PartNumber: LP3875ES-ADJ; Manufacturer: National Semiconductor; CompType: LDO IC; PackageTopMarking: NSUZXYTTE#*LP3875ES*ADJ; PowerWise: N; Published: 4-Dec-2008; DatasheetVersion: Sep-2006; PackageVersion: revD, Apr-2005; PackageReference: TS5B; Publisher: Altium Limited; PackageDescription: TO-263, Molded, .400 x .390 x .180in, 5 Lead, .067in Pitch, Surface Mount; RoHS: Y; PinCount: 5; DigiKeyPartNumber: LP3875ES-ADJ-ND; Code_JEDEC: MO-169-AB; ComponentLink1Description: LP3875-ADJ Datasheet; ComponentLink1URL: http://www.national.com/ds/LP/LP3875-ADJ.pdf; ComponentLink2Description: LP3875-ADJ Web Page; ComponentLink2URL: http://www.national.com/pf/LP/LP3875-ADJ.html; ComponentLink3Description: TS5B Package Page; ComponentLink3URL: http://www.national.com/packaging/folders/ts5b.html
footprint TS5B_N (D2-PAK, 6-Leads, Body 8.6x10.2mm, Pitch 1.7mm, Lead Span 14.1mm, IPC Medium Density)
footprint TS5B_L (D2-PAK, 6-Leads, Body 8.6x10.2mm, Pitch 1.7mm, Lead Span 14.1mm, IPC High Density)
footprint TS5B_M (D2-PAK, 6-Leads, Body 8.6x10.2mm, Pitch 1.7mm, Lead Span 14.1mm, IPC Low Density)
pins: 1 ~{SD} (in), 2 IN (power), 3 GND (power), 4 OUT (power), 5 ADJ (in), 6 TAB (power)

## LP3875ET-1.8
designator U?
1.5A Fast Ultra Low Dropout Linear Regulator; PartNumber: LP3875ET-1.8; Manufacturer: National Semiconductor; CompType: LDO IC; PackageTopMarking: NSUZXYTTE#*LP3875ET*-1.8; Published: 4-Dec-2008; DatasheetVersion: Sep-2006; PackageVersion: revA, Oct-1989; PackageReference: T05D; Publisher: Altium Limited; PackageDescription: TO-220, Molded, Stagger Bend, 5 Lead; RoHS: Y; PinCount: 5; DigiKeyPartNumber: LP3875ET-1.8-ND; ComponentLink1Description: LP3875 Datasheet; ComponentLink1URL: http://www.national.com/ds/LP/LP3875.pdf; ComponentLink2Description: LP3875 Web Page; ComponentLink2URL: http://www.national.com/pf/LP/LP3875.html; ComponentLink3Description: T05D Package Page; ComponentLink3URL: http://www.national.com/packaging/folders/t05d.html
footprint T05D (TO, Thru-Hole, Vertical, Heatsink Mounted; 5 Bent Staggered Leads; Pitch 1.7 mm)
pins: 1 ~{SD} (in), 2 IN (power), 3 GND (power), 4 OUT (power), 5 SNS (in)

## LP3875ET-2.5
designator U?
1.5A Fast Ultra Low Dropout Linear Regulator; PartNumber: LP3875ET-2.5; Manufacturer: National Semiconductor; CompType: LDO IC; PackageTopMarking: NSUZXYTTE#*LP3875ET*-2.5; Published: 4-Dec-2008; DatasheetVersion: Sep-2006; PackageVersion: revA, Oct-1989; PackageReference: T05D; Publisher: Altium Limited; PackageDescription: TO-220, Molded, Stagger Bend, 5 Lead; RoHS: Y; PinCount: 5; DigiKeyPartNumber: LP3875ET-2.5-ND; ComponentLink1Description: LP3875 Datasheet; ComponentLink1URL: http://www.national.com/ds/LP/LP3875.pdf; ComponentLink2Description: LP3875 Web Page; ComponentLink2URL: http://www.national.com/pf/LP/LP3875.html; ComponentLink3Description: T05D Package Page; ComponentLink3URL: http://www.national.com/packaging/folders/t05d.html
footprint T05D (TO, Thru-Hole, Vertical, Heatsink Mounted; 5 Bent Staggered Leads; Pitch 1.7 mm)
pins: 1 ~{SD} (in), 2 IN (power), 3 GND (power), 4 OUT (power), 5 SNS (in)

## LP3875ET-3.3
designator U?
1.5A Fast Ultra Low Dropout Linear Regulator; PartNumber: LP3875ET-3.3; Manufacturer: National Semiconductor; CompType: LDO IC; PackageTopMarking: NSUZXYTTE#*LP3875ET*-3.3; PowerWise: N; Published: 4-Dec-2008; DatasheetVersion: Sep-2006; PackageVersion: revA, Oct-1989; PackageReference: T05D; Publisher: Altium Limited; PackageDescription: TO-220, Molded, Stagger Bend, 5 Lead; RoHS: Y; PinCount: 5; DigiKeyPartNumber: LP3875ET-3.3-ND; ComponentLink1Description: LP3875 Datasheet; ComponentLink1URL: http://www.national.com/ds/LP/LP3875.pdf; ComponentLink2Description: LP3875 Web Page; ComponentLink2URL: http://www.national.com/pf/LP/LP3875.html; ComponentLink3Description: T05D Package Page; ComponentLink3URL: http://www.national.com/packaging/folders/t05d.html
footprint T05D (TO, Thru-Hole, Vertical, Heatsink Mounted; 5 Bent Staggered Leads; Pitch 1.7 mm)
pins: 1 ~{SD} (in), 2 IN (power), 3 GND (power), 4 OUT (power), 5 SNS (in)

## LP3875ET-5.0
designator U?
1.5A Fast Ultra Low Dropout Linear Regulator; PartNumber: LP3875ET-5.0; Manufacturer: National Semiconductor; CompType: LDO IC; PackageTopMarking: NSUZXYTTE#*LP3875ET*-5.0; Published: 4-Dec-2008; DatasheetVersion: Sep-2006; PackageVersion: revA, Oct-1989; PackageReference: T05D; Publisher: Altium Limited; PackageDescription: TO-220, Molded, Stagger Bend, 5 Lead; RoHS: Y; PinCount: 5; DigiKeyPartNumber: LP3875ET-5.0-ND; ComponentLink1Description: LP3875 Datasheet; ComponentLink1URL: http://www.national.com/ds/LP/LP3875.pdf; ComponentLink2Description: LP3875 Web Page; ComponentLink2URL: http://www.national.com/pf/LP/LP3875.html; ComponentLink3Description: T05D Package Page; ComponentLink3URL: http://www.national.com/packaging/folders/t05d.html
footprint T05D (TO, Thru-Hole, Vertical, Heatsink Mounted; 5 Bent Staggered Leads; Pitch 1.7 mm)
pins: 1 ~{SD} (in), 2 IN (power), 3 GND (power), 4 OUT (power), 5 SNS (in)

## LP3875ET-ADJ
designator U?
1.5A Fast Ultra Low Dropout Linear Regulator; PartNumber: LP3875ET-ADJ; Manufacturer: National Semiconductor; CompType: LDO IC; PackageTopMarking: NSUZXYTTE#*LP3875ET*ADJ; Published: 4-Dec-2008; DatasheetVersion: Sep-2006; PackageVersion: revA, Oct-1989; PackageReference: T05D; Publisher: Altium Limited; PackageDescription: TO-220, Molded, Stagger Bend, 5 Lead; RoHS: Y; PinCount: 5; DigiKeyPartNumber: LP3875ET-ADJ-ND; ComponentLink1Description: LP3875-ADJ Datasheet; ComponentLink1URL: http://www.national.com/ds/LP/LP3875-ADJ.pdf; ComponentLink2Description: LP3875-ADJ Web Page; ComponentLink2URL: http://www.national.com/pf/LP/LP3875-ADJ.html; ComponentLink3Description: T05D Package Page; ComponentLink3URL: http://www.national.com/packaging/folders/t05d.html
footprint T05D (TO, Thru-Hole, Vertical, Heatsink Mounted; 5 Bent Staggered Leads; Pitch 1.7 mm)
pins: 1 ~{SD} (in), 2 IN (power), 3 GND (power), 4 OUT (power), 5 ADJ (in)

## LP3876ES-1.8
designator U?
3A Fast Ultra Low Dropout Linear Regulator; PartNumber: LP3876ES-1.8; Manufacturer: National Semiconductor; CompType: LDO IC; PackageTopMarking: NSUZXYTTE#*LP3876ES*-1.8; PowerWise: N; Published: 4-Dec-2008; DatasheetVersion: Sep-2006; PackageVersion: revD, Apr-2005; PackageReference: TS5B; Publisher: Altium Limited; PackageDescription: TO-263, Molded, .400 x .390 x .180in, 5 Lead, .067in Pitch, Surface Mount; RoHS: Y; PinCount: 5; DigiKeyPartNumber: LP3876ES-1.8-ND; Code_JEDEC: MO-169-AB; ComponentLink1Description: LP3876 Datasheet; ComponentLink1URL: http://www.national.com/ds/LP/LP3876.pdf; ComponentLink2Description: LP3876 Web Page; ComponentLink2URL: http://www.national.com/pf/LP/LP3876.html; ComponentLink3Description: TS5B Package Page; ComponentLink3URL: http://www.national.com/packaging/folders/ts5b.html
footprint TS5B_N (D2-PAK, 6-Leads, Body 8.6x10.2mm, Pitch 1.7mm, Lead Span 14.1mm, IPC Medium Density)
footprint TS5B_L (D2-PAK, 6-Leads, Body 8.6x10.2mm, Pitch 1.7mm, Lead Span 14.1mm, IPC High Density)
footprint TS5B_M (D2-PAK, 6-Leads, Body 8.6x10.2mm, Pitch 1.7mm, Lead Span 14.1mm, IPC Low Density)
pins: 1 ~{SD} (in), 2 IN (power), 3 GND (power), 4 OUT (power), 5 SNS (in), 6 TAB (power)

## LP3876ES-2.5
designator U?
3A Fast Ultra Low Dropout Linear Regulator; PartNumber: LP3876ES-2.5; Manufacturer: National Semiconductor; CompType: LDO IC; PackageTopMarking: NSUZXYTTE#*LP3876ES*-2.5; PowerWise: N; Published: 4-Dec-2008; DatasheetVersion: Sep-2006; PackageVersion: revD, Apr-2005; PackageReference: TS5B; Publisher: Altium Limited; PackageDescription: TO-263, Molded, .400 x .390 x .180in, 5 Lead, .067in Pitch, Surface Mount; RoHS: Y; PinCount: 5; DigiKeyPartNumber: LP3876ES-2.5-ND; Code_JEDEC: MO-169-AB; ComponentLink1Description: LP3876 Datasheet; ComponentLink1URL: http://www.national.com/ds/LP/LP3876.pdf; ComponentLink2Description: LP3876 Web Page; ComponentLink2URL: http://www.national.com/pf/LP/LP3876.html; ComponentLink3Description: TS5B Package Page; ComponentLink3URL: http://www.national.com/packaging/folders/ts5b.html
footprint TS5B_N (D2-PAK, 6-Leads, Body 8.6x10.2mm, Pitch 1.7mm, Lead Span 14.1mm, IPC Medium Density)
footprint TS5B_L (D2-PAK, 6-Leads, Body 8.6x10.2mm, Pitch 1.7mm, Lead Span 14.1mm, IPC High Density)
footprint TS5B_M (D2-PAK, 6-Leads, Body 8.6x10.2mm, Pitch 1.7mm, Lead Span 14.1mm, IPC Low Density)
pins: 1 ~{SD} (in), 2 IN (power), 3 GND (power), 4 OUT (power), 5 SNS (in), 6 TAB (power)

## LP3876ES-3.3
designator U?
3A Fast Ultra Low Dropout Linear Regulator; PartNumber: LP3876ES-3.3; Manufacturer: National Semiconductor; CompType: LDO IC; PackageTopMarking: NSUZXYTTE#*LP3876ES*-3.3; PowerWise: N; Published: 4-Dec-2008; DatasheetVersion: Sep-2006; PackageVersion: revD, Apr-2005; PackageReference: TS5B; Publisher: Altium Limited; PackageDescription: TO-263, Molded, .400 x .390 x .180in, 5 Lead, .067in Pitch, Surface Mount; RoHS: Y; PinCount: 5; DigiKeyPartNumber: LP3876ES-3.3-ND; Code_JEDEC: MO-169-AB; ComponentLink1Description: LP3876 Datasheet; ComponentLink1URL: http://www.national.com/ds/LP/LP3876.pdf; ComponentLink2Description: LP3876 Web Page; ComponentLink2URL: http://www.national.com/pf/LP/LP3876.html; ComponentLink3Description: TS5B Package Page; ComponentLink3URL: http://www.national.com/packaging/folders/ts5b.html
footprint TS5B_N (D2-PAK, 6-Leads, Body 8.6x10.2mm, Pitch 1.7mm, Lead Span 14.1mm, IPC Medium Density)
footprint TS5B_L (D2-PAK, 6-Leads, Body 8.6x10.2mm, Pitch 1.7mm, Lead Span 14.1mm, IPC High Density)
footprint TS5B_M (D2-PAK, 6-Leads, Body 8.6x10.2mm, Pitch 1.7mm, Lead Span 14.1mm, IPC Low Density)
pins: 1 ~{SD} (in), 2 IN (power), 3 GND (power), 4 OUT (power), 5 SNS (in), 6 TAB (power)

## LP3876ES-5.0
designator U?
3A Fast Ultra Low Dropout Linear Regulator; PartNumber: LP3876ES-5.0; Manufacturer: National Semiconductor; CompType: LDO IC; PackageTopMarking: NSUZXYTTE#*LP3876ES*-5.0; PowerWise: N; Published: 4-Dec-2008; DatasheetVersion: Sep-2006; PackageVersion: revD, Apr-2005; PackageReference: TS5B; Publisher: Altium Limited; PackageDescription: TO-263, Molded, .400 x .390 x .180in, 5 Lead, .067in Pitch, Surface Mount; RoHS: Y; PinCount: 5; DigiKeyPartNumber: LP3876ES-5.0-ND; Code_JEDEC: MO-169-AB; ComponentLink1Description: LP3876 Datasheet; ComponentLink1URL: http://www.national.com/ds/LP/LP3876.pdf; ComponentLink2Description: LP3876 Web Page; ComponentLink2URL: http://www.national.com/pf/LP/LP3876.html; ComponentLink3Description: TS5B Package Page; ComponentLink3URL: http://www.national.com/packaging/folders/ts5b.html
footprint TS5B_N (D2-PAK, 6-Leads, Body 8.6x10.2mm, Pitch 1.7mm, Lead Span 14.1mm, IPC Medium Density)
footprint TS5B_L (D2-PAK, 6-Leads, Body 8.6x10.2mm, Pitch 1.7mm, Lead Span 14.1mm, IPC High Density)
footprint TS5B_M (D2-PAK, 6-Leads, Body 8.6x10.2mm, Pitch 1.7mm, Lead Span 14.1mm, IPC Low Density)
pins: 1 ~{SD} (in), 2 IN (power), 3 GND (power), 4 OUT (power), 5 SNS (in), 6 TAB (power)

## LP3876ES-ADJ
designator U?
3A Fast Ultra Low Dropout Linear Regulator; PartNumber: LP3876ES-ADJ; Manufacturer: National Semiconductor; CompType: LDO IC; PackageTopMarking: NSUZXYTTE#*LP3876ES*ADJ; PowerWise: N; Published: 4-Dec-2008; DatasheetVersion: Sep-2006; PackageVersion: revD, Apr-2005; PackageReference: TS5B; Publisher: Altium Limited; PackageDescription: TO-263, Molded, .400 x .390 x .180in, 5 Lead, .067in Pitch, Surface Mount; RoHS: Y; PinCount: 5; DigiKeyPartNumber: LP3876ES-ADJ-ND; Code_JEDEC: MO-169-AB; ComponentLink1Description: LP3876-ADJ Datasheet; ComponentLink1URL: http://www.national.com/ds/LP/LP3876-ADJ.pdf; ComponentLink2Description: LP3876-ADJ Web Page; ComponentLink2URL: http://www.national.com/pf/LP/LP3876-ADJ.html; ComponentLink3Description: TS5B Package Page; ComponentLink3URL: http://www.national.com/packaging/folders/ts5b.html
footprint TS5B_N (D2-PAK, 6-Leads, Body 8.6x10.2mm, Pitch 1.7mm, Lead Span 14.1mm, IPC Medium Density)
footprint TS5B_L (D2-PAK, 6-Leads, Body 8.6x10.2mm, Pitch 1.7mm, Lead Span 14.1mm, IPC High Density)
footprint TS5B_M (D2-PAK, 6-Leads, Body 8.6x10.2mm, Pitch 1.7mm, Lead Span 14.1mm, IPC Low Density)
pins: 1 ~{SD} (in), 2 IN (power), 3 GND (power), 4 OUT (power), 5 ADJ (in), 6 TAB (power)

## LP3876ET-1.8
designator U?
3A Fast Ultra Low Dropout Linear Regulator; PartNumber: LP3876ET-1.8; Manufacturer: National Semiconductor; CompType: LDO IC; PackageTopMarking: NSUZXYTTE#*LP3876ET*-1.8; Published: 4-Dec-2008; DatasheetVersion: Sep-2006; PackageVersion: revA, Oct-1989; PackageReference: T05D; Publisher: Altium Limited; PackageDescription: TO-220, Molded, Stagger Bend, 5 Lead; RoHS: Y; PinCount: 5; DigiKeyPartNumber: LP3876ET-1.8-ND; ComponentLink1Description: LP3876 Datasheet; ComponentLink1URL: http://www.national.com/ds/LP/LP3876.pdf; ComponentLink2Description: LP3876 Web Page; ComponentLink2URL: http://www.national.com/pf/LP/LP3876.html; ComponentLink3Description: T05D Package Page; ComponentLink3URL: http://www.national.com/packaging/folders/t05d.html
footprint T05D (TO, Thru-Hole, Vertical, Heatsink Mounted; 5 Bent Staggered Leads; Pitch 1.7 mm)
pins: 1 ~{SD} (in), 2 IN (power), 3 GND (power), 4 OUT (power), 5 SNS (in)

## LP3876ET-2.5
designator U?
3A Fast Ultra Low Dropout Linear Regulator; PartNumber: LP3876ET-2.5; Manufacturer: National Semiconductor; CompType: LDO IC; PackageTopMarking: NSUZXYTTE#*LP3876ET*-2.5; Published: 4-Dec-2008; DatasheetVersion: Sep-2006; PackageVersion: revA, Oct-1989; PackageReference: T05D; Publisher: Altium Limited; PackageDescription: TO-220, Molded, Stagger Bend, 5 Lead; RoHS: Y; PinCount: 5; DigiKeyPartNumber: LP3876ET-2.5-ND; ComponentLink1Description: LP3876 Datasheet; ComponentLink1URL: http://www.national.com/ds/LP/LP3876.pdf; ComponentLink2Description: LP3876 Web Page; ComponentLink2URL: http://www.national.com/pf/LP/LP3876.html; ComponentLink3Description: T05D Package Page; ComponentLink3URL: http://www.national.com/packaging/folders/t05d.html
footprint T05D (TO, Thru-Hole, Vertical, Heatsink Mounted; 5 Bent Staggered Leads; Pitch 1.7 mm)
pins: 1 ~{SD} (in), 2 IN (power), 3 GND (power), 4 OUT (power), 5 SNS (in)

## LP3876ET-3.3
designator U?
3A Fast Ultra Low Dropout Linear Regulator; PartNumber: LP3876ET-3.3; Manufacturer: National Semiconductor; CompType: LDO IC; PackageTopMarking: NSUZXYTTE#*LP3876ET*-3.3; PowerWise: N; Published: 4-Dec-2008; DatasheetVersion: Sep-2006; PackageVersion: revA, Oct-1989; PackageReference: T05D; Publisher: Altium Limited; PackageDescription: TO-220, Molded, Stagger Bend, 5 Lead; RoHS: Y; PinCount: 5; DigiKeyPartNumber: LP3876ET-3.3-ND; ComponentLink1Description: LP3876 Datasheet; ComponentLink1URL: http://www.national.com/ds/LP/LP3876.pdf; ComponentLink2Description: LP3876 Web Page; ComponentLink2URL: http://www.national.com/pf/LP/LP3876.html; ComponentLink3Description: T05D Package Page; ComponentLink3URL: http://www.national.com/packaging/folders/t05d.html
footprint T05D (TO, Thru-Hole, Vertical, Heatsink Mounted; 5 Bent Staggered Leads; Pitch 1.7 mm)
pins: 1 ~{SD} (in), 2 IN (power), 3 GND (power), 4 OUT (power), 5 SNS (in)

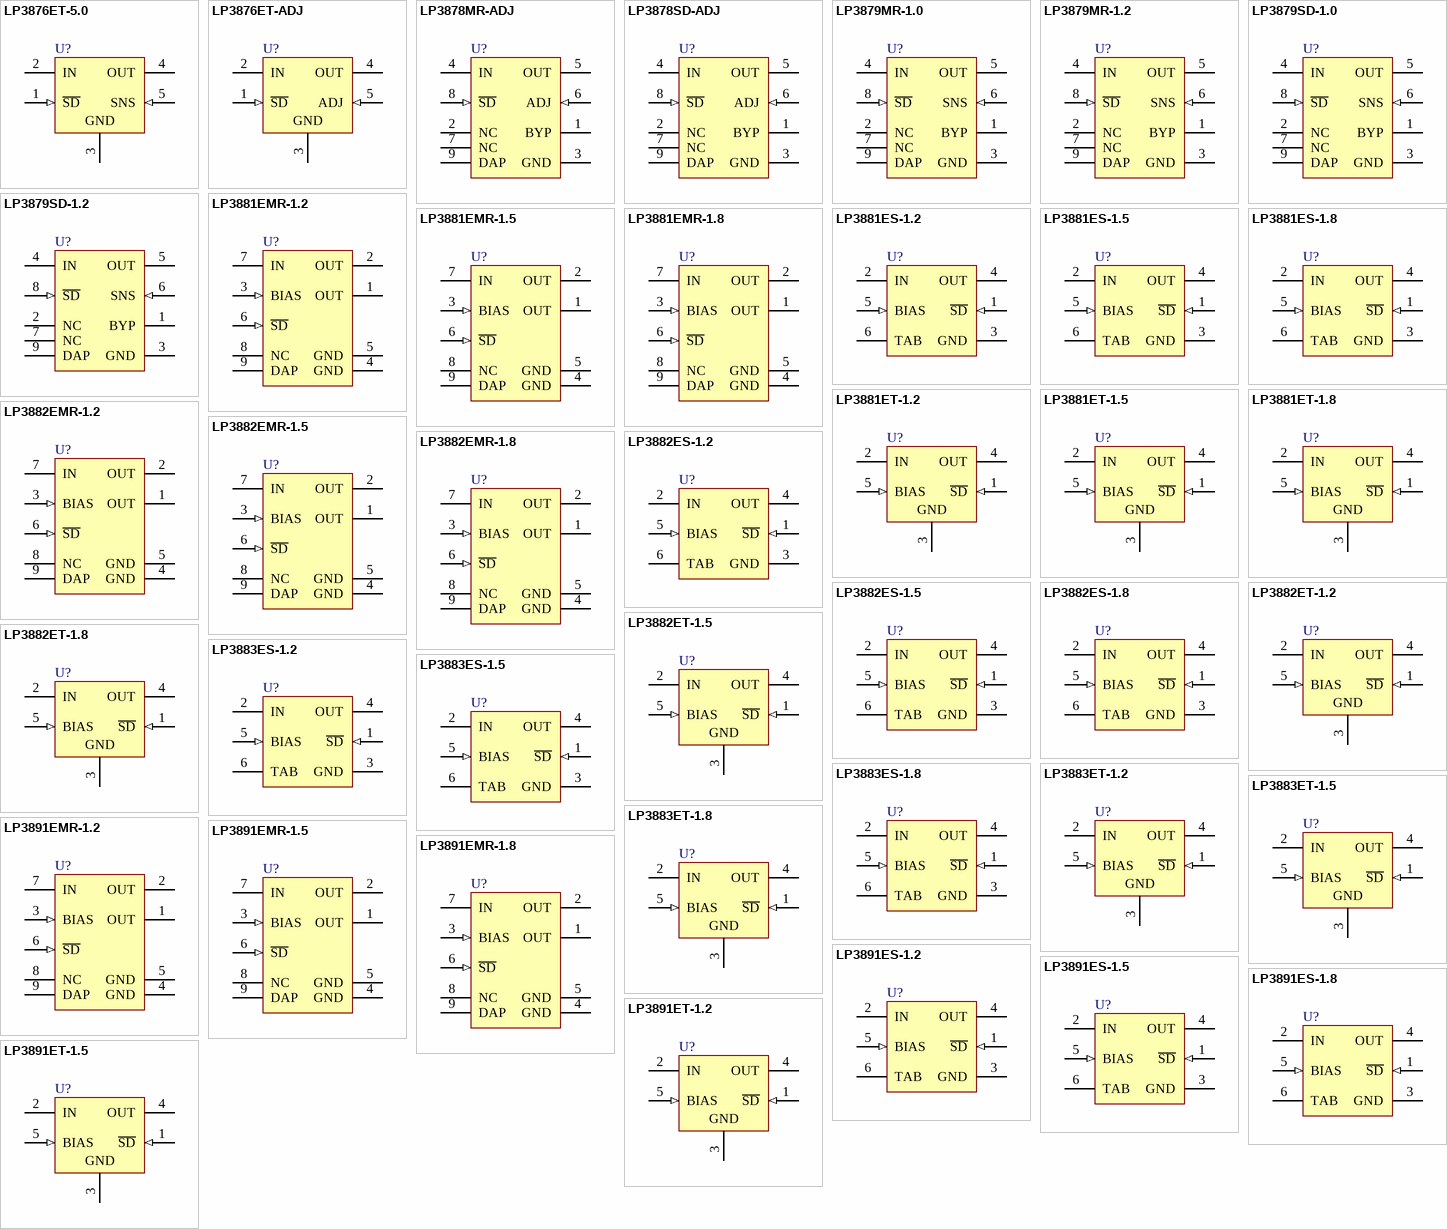
[diagram p19: symbols LP3876ET-5.0 to LP3891ET-1.5]

## LP3876ET-5.0
designator U?
3A Fast Ultra Low Dropout Linear Regulator; PartNumber: LP3876ET-5.0; Manufacturer: National Semiconductor; CompType: LDO IC; PackageTopMarking: NSUZXYTTE#*LP3876ET*-5.0; Published: 4-Dec-2008; DatasheetVersion: Sep-2006; PackageVersion: revA, Oct-1989; PackageReference: T05D; Publisher: Altium Limited; PackageDescription: TO-220, Molded, Stagger Bend, 5 Lead; RoHS: Y; PinCount: 5; DigiKeyPartNumber: LP3876ET-5.0-ND; ComponentLink1Description: LP3876 Datasheet; ComponentLink1URL: http://www.national.com/ds/LP/LP3876.pdf; ComponentLink2Description: LP3876 Web Page; ComponentLink2URL: http://www.national.com/pf/LP/LP3876.html; ComponentLink3Description: T05D Package Page; ComponentLink3URL: http://www.national.com/packaging/folders/t05d.html
footprint T05D (TO, Thru-Hole, Vertical, Heatsink Mounted; 5 Bent Staggered Leads; Pitch 1.7 mm)
pins: 1 ~{SD} (in), 2 IN (power), 3 GND (power), 4 OUT (power), 5 SNS (in)

## LP3876ET-ADJ
designator U?
3A Fast Ultra Low Dropout Linear Regulator; PartNumber: LP3876ET-ADJ; Manufacturer: National Semiconductor; CompType: LDO IC; PackageTopMarking: NSUZXYTTE#*LP3876ET*ADJ; Published: 4-Dec-2008; DatasheetVersion: Sep-2006; PackageVersion: revA, Oct-1989; PackageReference: T05D; Publisher: Altium Limited; PackageDescription: TO-220, Molded, Stagger Bend, 5 Lead; RoHS: Y; PinCount: 5; DigiKeyPartNumber: LP3876ET-ADJ-ND; ComponentLink1Description: LP3876-ADJ Datasheet; ComponentLink1URL: http://www.national.com/ds/LP/LP3876-ADJ.pdf; ComponentLink2Description: LP3876-ADJ Web Page; ComponentLink2URL: http://www.national.com/pf/LP/LP3876-ADJ.html; ComponentLink3Description: T05D Package Page; ComponentLink3URL: http://www.national.com/packaging/folders/t05d.html
footprint T05D (TO, Thru-Hole, Vertical, Heatsink Mounted; 5 Bent Staggered Leads; Pitch 1.7 mm)
pins: 1 ~{SD} (in), 2 IN (power), 3 GND (power), 4 OUT (power), 5 ADJ (in)

## LP3878MR-ADJ
designator U?
Micropower 800mA Low Noise 'Ceramic Stable' Adjustable Voltage Regulator for 1V to 5V Applications; PartNumber: LP3878MR-ADJ; Manufacturer: National Semiconductor; CompType: LDO IC; PackageTopMarking: NSXYTT*3878*MRADJ; PowerWise: N; Published: 4-Dec-2008; DatasheetVersion: May-2005; PackageVersion: revD, Dec-2007; PackageReference: MRA08A; Publisher: Altium Limited; PackageDescription: Molded, PSOP .193 x .154 x .058in, 8 Lead, .050in Pitch; RoHS: O; PinCount: 8; DigiKeyPartNumber: LP3878MR-ADJ-ND; Code_JEDEC: MS-012-AA; ComponentLink1Description: LP3878-ADJ Datasheet; ComponentLink1URL: http://www.national.com/ds/LP/LP3878-ADJ.pdf; ComponentLink2Description: LP3878-ADJ Web Page; ComponentLink2URL: http://www.national.com/pf/LP/LP3878-ADJ.html; ComponentLink3Description: MRA08A Package Page; ComponentLink3URL: http://www.national.com/packaging/folders/mra08a.html
footprint MRA08A_N (SOIC, 8-Leads, Body 4.9x3.9mm, Pitch 1.27mm, Exposed Pad, IPC Medium Density)
footprint MRA08A_L (SOIC, 8-Leads, Body 4.9x3.9mm, Pitch 1.27mm, Exposed Pad, IPC High Density)
footprint MRA08A_M (SOIC, 8-Leads, Body 4.9x3.9mm, Pitch 1.27mm, Exposed Pad, IPC Low Density)
pins: 1 BYP, 2 NC, 3 GND (power), 4 IN (power), 5 OUT (power), 6 ADJ (in), 7 NC, 8 ~{SD} (in), 9 DAP (power)